# Altium schematic symbol library DASH1_Schlib1.SchLib: 33 symbols (part 2 of 2)
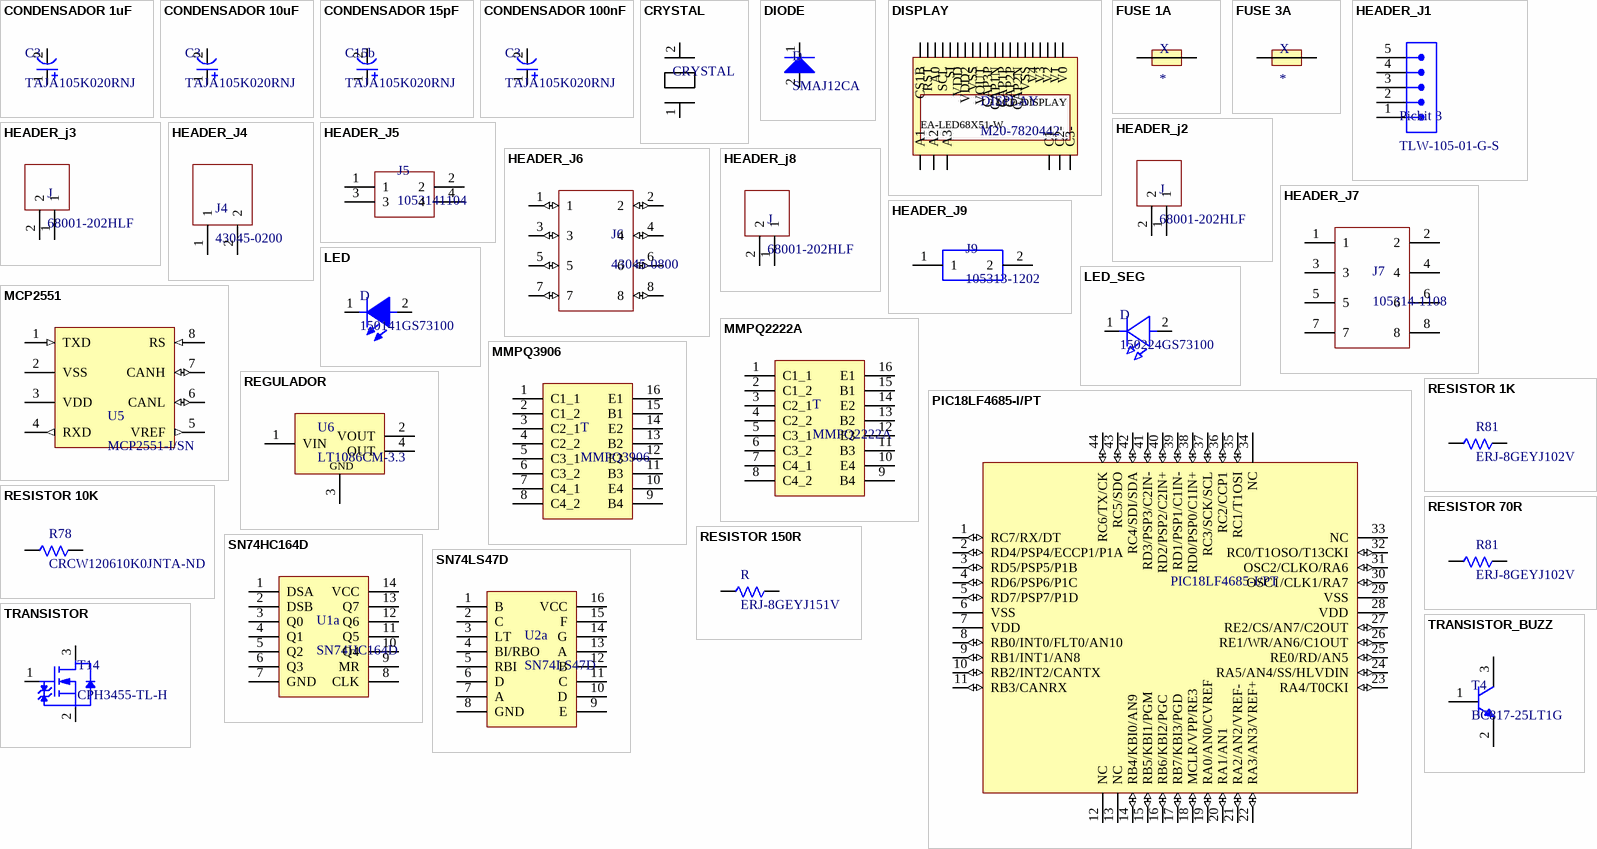
[diagram p1: symbols CONDENSADOR 1uF to TRANSISTOR_BUZZ]

## REGULADOR
designator U6, comment LT1086CM-3.3
IC REG LDO 3.3V 1.5A D2PAK; Manufacturer 1: Analog Devices / Linear Technology; Number of Outputs: 1; Max Input Voltage: 25V; Dropout Voltage: 1.3V; Min Input Voltage: 2.55V; Quiescent Current: 10mA; Operating Supply Current: 5mA; Power Supply Rejection Ratio (PSRR): 72dB; Polarity: Positive; Power Dissipation: 15W; Output Type: Fixed; Supplier 1: Arrow; Manufacturer Part Number 1: LT1086CM-3.3; Stock 1: 2286; Pricing 1: 1=11,36990, 25=7,21000, 100=5,40000, 500=4,32000, 1000=3,87000 (USD); RoHS: Yes; Case/Package: M; Number of Pins: 3; Min Operating Temperature: 0°C; Max Operating Temperature: 150°C; Packaging: Rail/Tube; Output Voltage: 3.3V; Output Current: 1.5A; Package Quantity: 50; Number of Regulators: 1; Min Current Limit: 1.5A; Max Output Current: 1.5A; Length: 10.54mm; Height: 4.57mm; Width: 9.4mm; Radiation Hardening: No; Lead Free: Contains Lead; ComponentLink1URL: https://datasheet.ciiva.com/2058/1722-2058517.pdf?src-supplier=Digi-Key; ComponentLink1Description: https://datasheet.ciiva.com/2058/1722-2058517.pdf?src-supplier=Digi-Key; Supplier Part Number 1: LT1086CM-3.3; Category: Regulador
footprint TO228P970-3N
pins: 1 VIN (power), 2 VOUT (power), 3 GND (power), 4 OUT (power)

## RESISTOR 1K
designator R81, comment ERJ-8GEYJ102V
Res Thick Film 1206(3216) 1K Ohm 5% 1/4W 200ppm/C Molded SMD Punched Carrier T/R; Manufacturer 1: Panasonic; Resistance: 1kR; Temperature Coefficient: 200ppm/°C; Power Rating: 250mW; Voltage Rating: 200V; Categoría: Resistencia; Supplier 1: Digi-Key; Manufacturer Part Number 1: ERJ-8GEYJ102V; Stock 1: 1414216; Pricing 1: 1=0,10000, 10=0,07400, 100=0,03010, 1000=0,01351, 2500=0,01172 (USD); RoHS: Yes; Mount: Surface Mount; Case/Package: 1206; Case Code (Metric): 3216; Case Code (Imperial): 1206; Contact Plating: Tin; Min Operating Temperature: -55°C; Max Operating Temperature: 155°C; Tolerance: 5%; Packaging: Tape and Reel; Composition: Thick Film; Package Quantity: 1; Number of Terminations: 2; Max Power Dissipation: 250mW; Voltage Rating (DC): 200V; Features: Automotive AEC-Q200; Termination: SMD/SMT; Military Standard: Not; Width: 0.063inch; Radiation Hardening: No; Lead Free: Lead Free; REACH SVHC: Unknown; ComponentLink1URL: https://datasheet.ciiva.com/24069/aoa0000ce1-37422-24069653.pdf?src-supplier=Mouser; ComponentLink1Description: https://datasheet.ciiva.com/24069/aoa0000ce1-37422-24069653.pdf?src-supplier=Mouser; ComponentLink2URL: https://datasheet.ciiva.com/30141/4aoa0000ce1-30141014.pdf?src-supplier=Onlinecomponents.com; ComponentLink2Description: https://datasheet.ciiva.com/30141/4aoa0000ce1-30141014.pdf?src-supplier=Onlinecomponents.com; ComponentLink3URL: https://datasheet.ciiva.com/43460/1500035-43460230.pdf?src-supplier=Farnell; ComponentLink3Description: https://datasheet.ciiva.com/43460/1500035-43460230.pdf?src-supplier=Farnell; ComponentLink4URL: https://datasheet.ciiva.com/17215/aoa0000ce1-17215321.pdf?src-supplier=Avnet+Europe; ComponentLink4Description: https://datasheet.ciiva.com/17215/aoa0000ce1-17215321.pdf?src-supplier=Avnet+Europe; ComponentLink5URL: https://datasheet.ciiva.com/46371/1500035-46371931.pdf?src-supplier=Element14; ComponentLink5Description: https://datasheet.ciiva.com/46371/1500035-46371931.pdf?src-supplier=Element14; ComponentLink6URL: https://datasheet.ciiva.com/28532/1678796-28532156.pdf?src-supplier=Element14; ComponentLink6Description: https://datasheet.ciiva.com/28532/1678796-28532156.pdf?src-supplier=Element14; ComponentLink7URL: https://datasheet.ciiva.com/46386/1500035-46386461.pdf?src-supplier=Element14; ComponentLink7Description: https://datasheet.ciiva.com/46386/1500035-46386461.pdf?src-supplier=Element14; ComponentLink8URL: https://datasheet.ciiva.com/48532/aoa0000ce1-48532159.pdf?src-supplier=Avnet; ComponentLink8Description: https://datasheet.ciiva.com/48532/aoa0000ce1-48532159.pdf?src-supplier=Avnet; Supplier Part Number 1: P1.0KECT-ND; Depth: 1.6mm; Height: 0.6mm; Length: 3.2mm
footprint ERJ-8GEYJ102V (Chip Resistor, 2-Leads, Body 3,20x1,60mm, IPC Medium Density)
pins: 1, 2

## RESISTOR 10K
designator R78, comment CRCW120610K0JNTA-ND
RES SMD 10K OHM 5% 1/4W 1206; Manufacturer 1: Vishay Dale; Resistance: 10kR; Power Rating: 250mW; Voltage Rating: 200V; Temperature Coefficient: 200ppm/°C; Supplier 1: Avnet; Manufacturer Part Number 1: CRCW120610K0JNTA; Stock 1: 5000; Pricing 1: 5000=0,02620, 10000=0,02542, 20000=0,02439, 30000=0,02372, 50000=0,02308 (USD); RoHS: Yes; Case/Package: 1206; Weight: 0.000353oz; Case Code (Metric): 3216; Case Code (Imperial): 1206; Contact Plating: Tin,Lead; Min Operating Temperature: -55°C; Max Operating Temperature: 155°C; Tolerance: 5%; Package Quantity: 5000; Packaging: Tape and Reel; Composition: Thick Film; Number of Terminations: 2; Termination: SMD/SMT; Military Standard: Not; Max Power Dissipation: 250mW; Voltage Rating (DC): 200V; Power Dissipation: 250mW; Features: Automotive AEC-Q200; Length: 3.2mm; Height: 0.024inch; Width: 0.063inch; Depth: 1.6mm; Radiation Hardening: No; Lead Free: Contains Lead; ComponentLink1URL: https://datasheet.ciiva.com/2567/dcrcw-2567803.pdf?src-supplier=Digi-Key; ComponentLink1Description: https://datasheet.ciiva.com/2567/dcrcw-2567803.pdf?src-supplier=Digi-Key; ComponentLink2URL: https://datasheet.ciiva.com/9052/dcrcw-9052558.pdf?src-supplier=Avnet; ComponentLink2Description: https://datasheet.ciiva.com/9052/dcrcw-9052558.pdf?src-supplier=Avnet; Supplier Part Number 1: CRCW120610K0JNTA
footprint ERJ-8GEYJ102V (Chip Resistor, 2-Leads, Body 3,20x1,60mm, IPC Medium Density)
pins: 1, 2

## RESISTOR 70R
designator R81, comment ERJ-8GEYJ102V
Res Thick Film 1206(3216) 70 Ohm 5% 1/4W 200ppm/C Molded SMD Punched Carrier T/R; Manufacturer 1: Panasonic; Resistance: 1kR; Temperature Coefficient: 200ppm/°C; Power Rating: 250mW; Voltage Rating: 200V; Categoría: Resistencia; Supplier 1: Digi-Key; Manufacturer Part Number 1: ERJ-8GEYJ102V; Stock 1: 1414216; Pricing 1: 1=0,10000, 10=0,07400, 100=0,03010, 1000=0,01351, 2500=0,01172 (USD); RoHS: Yes; Mount: Surface Mount; Case/Package: 1206; Case Code (Metric): 3216; Case Code (Imperial): 1206; Contact Plating: Tin; Min Operating Temperature: -55°C; Max Operating Temperature: 155°C; Tolerance: 5%; Packaging: Tape and Reel; Composition: Thick Film; Package Quantity: 1; Number of Terminations: 2; Max Power Dissipation: 250mW; Voltage Rating (DC): 200V; Features: Automotive AEC-Q200; Termination: SMD/SMT; Military Standard: Not; Width: 0.063inch; Radiation Hardening: No; Lead Free: Lead Free; REACH SVHC: Unknown; ComponentLink1URL: https://datasheet.ciiva.com/24069/aoa0000ce1-37422-24069653.pdf?src-supplier=Mouser; ComponentLink1Description: https://datasheet.ciiva.com/24069/aoa0000ce1-37422-24069653.pdf?src-supplier=Mouser; ComponentLink2URL: https://datasheet.ciiva.com/30141/4aoa0000ce1-30141014.pdf?src-supplier=Onlinecomponents.com; ComponentLink2Description: https://datasheet.ciiva.com/30141/4aoa0000ce1-30141014.pdf?src-supplier=Onlinecomponents.com; ComponentLink3URL: https://datasheet.ciiva.com/43460/1500035-43460230.pdf?src-supplier=Farnell; ComponentLink3Description: https://datasheet.ciiva.com/43460/1500035-43460230.pdf?src-supplier=Farnell; ComponentLink4URL: https://datasheet.ciiva.com/17215/aoa0000ce1-17215321.pdf?src-supplier=Avnet+Europe; ComponentLink4Description: https://datasheet.ciiva.com/17215/aoa0000ce1-17215321.pdf?src-supplier=Avnet+Europe; ComponentLink5URL: https://datasheet.ciiva.com/46371/1500035-46371931.pdf?src-supplier=Element14; ComponentLink5Description: https://datasheet.ciiva.com/46371/1500035-46371931.pdf?src-supplier=Element14; ComponentLink6URL: https://datasheet.ciiva.com/28532/1678796-28532156.pdf?src-supplier=Element14; ComponentLink6Description: https://datasheet.ciiva.com/28532/1678796-28532156.pdf?src-supplier=Element14; ComponentLink7URL: https://datasheet.ciiva.com/46386/1500035-46386461.pdf?src-supplier=Element14; ComponentLink7Description: https://datasheet.ciiva.com/46386/1500035-46386461.pdf?src-supplier=Element14; ComponentLink8URL: https://datasheet.ciiva.com/48532/aoa0000ce1-48532159.pdf?src-supplier=Avnet; ComponentLink8Description: https://datasheet.ciiva.com/48532/aoa0000ce1-48532159.pdf?src-supplier=Avnet; Supplier Part Number 1: P1.0KECT-ND; Depth: 1.6mm; Height: 0.6mm; Length: 3.2mm
footprint ERJ-8GEYJ102V (Chip Resistor, 2-Leads, Body 3,20x1,60mm, IPC Medium Density)
pins: 1, 2

## RESISTOR 150R
designator R, comment ERJ-8GEYJ151V
RES SMD 150 OHM 5% 1/4W 1206; Manufacturer 1: Panasonic; Resistance: 150R; Temperature Coefficient: 200ppm/°C; Voltage Rating: 200V; Power Rating: 250mW; Supplier 1: Digi-Key; Manufacturer Part Number 1: ERJ-8GEYJ151V; Stock 1: 112821; Pricing 1: 1=0,10000, 10=0,06500, 100=0,02660, 1000=0,01195, 2500=0,01037 (USD); RoHS: Yes; Mount: Surface Mount; Case/Package: 1206; Weight: 0.000571oz; Contact Plating: Tin; Case Code (Imperial): 1206; Case Code (Metric): 3216; Min Operating Temperature: -55°C; Max Operating Temperature: 155°C; Tolerance: 5%; Composition: Thick Film; Packaging: Tape and Reel; Package Quantity: 1; Termination: SMD/SMT; Number of Terminations: 2; Military Standard: Not; Max Power Dissipation: 250mW; Voltage Rating (DC): 200V; Features: Automotive AEC-Q200; Length: 3.2mm; Height: 0.6mm; Width: 1.6mm; Depth: 1.6mm; Radiation Hardening: No; REACH SVHC: No SVHC; Lead Free: Lead Free; ComponentLink1URL: https://datasheet.ciiva.com/34303/1990341-34303679.pdf?src-supplier=Jameco; ComponentLink1Description: https://datasheet.ciiva.com/34303/1990341-34303679.pdf?src-supplier=Jameco; ComponentLink2URL: https://datasheet.ciiva.com/30146/4aoa0000ce1-30146493.pdf?src-supplier=Onlinecomponents.com; ComponentLink2Description: https://datasheet.ciiva.com/30146/4aoa0000ce1-30146493.pdf?src-supplier=Onlinecomponents.com; ComponentLink3URL: https://datasheet.ciiva.com/16771/70255313-16771855.pdf?src-supplier=Allied+Electronics; ComponentLink3Description: https://datasheet.ciiva.com/16771/70255313-16771855.pdf?src-supplier=Allied+Electronics; ComponentLink4URL: https://datasheet.ciiva.com/16773/70255313-16773382.pdf?src-supplier=Allied+Electronics; ComponentLink4Description: https://datasheet.ciiva.com/16773/70255313-16773382.pdf?src-supplier=Allied+Electronics; ComponentLink5URL: https://datasheet.ciiva.com/6082/1500035-6082279.pdf?src-supplier=Farnell; ComponentLink5Description: https://datasheet.ciiva.com/6082/1500035-6082279.pdf?src-supplier=Farnell; ComponentLink6URL: https://datasheet.ciiva.com/17207/aoa0000ce1-17207400.pdf?src-supplier=Avnet+Europe; ComponentLink6Description: https://datasheet.ciiva.com/17207/aoa0000ce1-17207400.pdf?src-supplier=Avnet+Europe; ComponentLink7URL: https://datasheet.ciiva.com/46377/1500035-46377050.pdf?src-supplier=Element14; ComponentLink7Description: https://datasheet.ciiva.com/46377/1500035-46377050.pdf?src-supplier=Element14; ComponentLink8URL: https://datasheet.ciiva.com/9185/aoa0000ce1-9185516.pdf?src-supplier=Avnet; ComponentLink8Description: https://datasheet.ciiva.com/9185/aoa0000ce1-9185516.pdf?src-supplier=Avnet; ComponentLink9URL: https://datasheet.ciiva.com/16513/aoa0000ce1-16513711.pdf?src-supplier=Avnet+Asia; ComponentLink9Description: https://datasheet.ciiva.com/16513/aoa0000ce1-16513711.pdf?src-supplier=Avnet+Asia; Supplier Part Number 1: P150ECT-ND
footprint ERJ-8GEYJ102V (Chip Resistor, 2-Leads, Body 3,20x1,60mm, IPC Medium Density)
pins: 1, 2

## SN74HC164D
designator U1a
IC, SHIFT REGISTER, SMD, 74HC164; Manufacturer 1: Texas Instruments; Number of Elements: 1; Max Supply Voltage: 6V; Min Supply Voltage: 2V; Propagation Delay: 30ns; Number of Bits per Element: 8; Operating Supply Voltage: 5V; Direction: Unidirectional; Number of Input Lines: 2; Turn-On Delay Time: 255ns; Supplier 1: Digi-Key; Manufacturer Part Number 1: SN74HC164D; Stock 1: 1795; Pricing 1: 1=0,39000, 10=0,33800, 25=0,31520, 100=0,25200, 250=0,23400, 500=0,19800, 1000=0,15300, 2500=0,13950, 5000=0,13050 (USD); RoHS: Yes; Mount: Surface Mount; Case/Package: SOIC; Number of Pins: 14; Weight: 0.004318oz; Min Operating Temperature: -40°C; Max Operating Temperature: 125°C; Packaging: Rail/Tube; Logic Function: Shift Register; Package Quantity: 50; Number of Circuits: 1; Number of Output Lines: 8; Number of Bits: 8; Length: 8.65mm; Height: 1.58mm; Width: 3.91mm; Radiation Hardening: No; Lead Free: Lead Free; REACH SVHC: No SVHC; ComponentLink1URL: https://datasheet.ciiva.com/15093/getdatasheetpartid-81705-15093317.pdf?src-supplier=Verical; ComponentLink1Description: https://datasheet.ciiva.com/15093/getdatasheetpartid-81705-15093317.pdf?src-supplier=Verical; ComponentLink2URL: https://datasheet.ciiva.com/1632/sn74hc164-1632150.pdf?src-supplier=Newark; ComponentLink2Description: https://datasheet.ciiva.com/1632/sn74hc164-1632150.pdf?src-supplier=Newark; ComponentLink3URL: https://datasheet.ciiva.com/41456/001016674-da-01-en-ic-8bit-shft-reg-sn74hc164d-soic-14-tid-41456967.pdf?src-supplier=Conrad; ComponentLink3Description: https://datasheet.ciiva.com/41456/001016674-da-01-en-ic-8bit-shft-reg-sn74hc164d-soic-14-tid-41456967.pdf?src-supplier=Conrad; ComponentLink4URL: https://datasheet.ciiva.com/1509/1850934-1509462.pdf?src-supplier=Element14; ComponentLink4Description: https://datasheet.ciiva.com/1509/1850934-1509462.pdf?src-supplier=Element14; ComponentLink5URL: https://datasheet.ciiva.com/1509/1874575-1509559.pdf?src-supplier=Element14; ComponentLink5Description: https://datasheet.ciiva.com/1509/1874575-1509559.pdf?src-supplier=Element14; ComponentLink6URL: https://datasheet.ciiva.com/26210/sn54hc164-sp-26210135.pdf?src-supplier=Avnet+Europe; ComponentLink6Description: https://datasheet.ciiva.com/26210/sn54hc164-sp-26210135.pdf?src-supplier=Avnet+Europe; ComponentLink7URL: https://datasheet.ciiva.com/1886/sn74hc164-1886430.pdf?src-supplier=Digi-Key; ComponentLink7Description: https://datasheet.ciiva.com/1886/sn74hc164-1886430.pdf?src-supplier=Digi-Key; Supplier Part Number 1: 296-8247-5-ND
footprint SOP127P600-8N
pins: 1 DSA, 2 DSB, 3 Q0, 4 Q1, 5 Q2, 6 Q3, 7 GND, 8 CLK, 9 MR, 10 Q4, 11 Q5, 12 Q6, 13 Q7, 14 VCC (power)

## SN74LS47D
designator U2a
TEXAS INSTRUMENTS         SN74LS47D            LOGIC, BCD TO 7-SEG DECODER, 16SOIC; Min Supply Voltage: 4.75V; Max Supply Voltage: 5.25V; Logic Function: Demultiplexer,Decoder; Operating Supply Voltage: 5V; Number of Outputs: 7; Low Level Output Current: 3.2mA; Polarity: Inverting; High Level Output Current: -50uA; Bandwidth: 35MHz; Propagation Delay: 100ns; Number of Elements: 1; Number of Inputs: 4; Operating Supply Current: 7mA; Supplier 1: Digi-Key; Manufacturer 1: Texas Instruments; Manufacturer Part Number 1: SN74LS47D; Stock 1: 475; Pricing 1: 1=1,85000, 10=1,66200, 25=1,56760, 100=1,33550, 250=1,25400, 500=1,09726, 1000=0,90915, 2500=0,84645, 5000=0,81510 (USD); RoHS: Yes; Case/Package: D; Number of Pins: 16; Weight: 0.004998oz; Contact Plating: Gold; Min Operating Temperature: 0°C; Max Operating Temperature: 70°C; Packaging: Rail/Tube; Number of Bits: 7; Package Quantity: 40; Max Input Voltage: 5.25V; Min Input Voltage: 4.75V; Number of Input Lines: 4; Number of Output Lines: 7; Turn-On Delay Time: 100ns; Number of Channels: 1; Number of Circuits: 1; Quiescent Current: 7mA; Length: 10mm; Height: 1.5mm; Width: 4mm; Radiation Hardening: No; Lead Free: Lead Free; REACH SVHC: No SVHC; ComponentLink1URL: https://datasheet.ciiva.com/15092/getdatasheetpartid-251224-15092377.pdf?src-supplier=Verical; ComponentLink1Description: https://datasheet.ciiva.com/15092/getdatasheetpartid-251224-15092377.pdf?src-supplier=Verical; ComponentLink2URL: https://datasheet.ciiva.com/1507/1857076-1507297.pdf?src-supplier=Element14; ComponentLink2Description: https://datasheet.ciiva.com/1507/1857076-1507297.pdf?src-supplier=Element14; ComponentLink3URL: https://datasheet.ciiva.com/14294/sn74ls47-14294261.pdf?src-supplier=Avnet; ComponentLink3Description: https://datasheet.ciiva.com/14294/sn74ls47-14294261.pdf?src-supplier=Avnet; ComponentLink4URL: https://datasheet.ciiva.com/1940/sn7447a-1940924.pdf?src-supplier=Digi-Key; ComponentLink4Description: https://datasheet.ciiva.com/1940/sn7447a-1940924.pdf?src-supplier=Digi-Key; ComponentLink5URL: https://datasheet.ciiva.com/14134/sn7447a-eng-tds-14134267.pdf?src-supplier=Distrelec; ComponentLink5Description: https://datasheet.ciiva.com/14134/sn7447a-eng-tds-14134267.pdf?src-supplier=Distrelec; ComponentLink6URL: https://datasheet.ciiva.com/41462/001014503-da-01-en-ic-bcd-to-7-seg-de-sn74ls47d-soic-16-tid-41462358.pdf?src-supplier=Conrad; ComponentLink6Description: https://datasheet.ciiva.com/41462/001014503-da-01-en-ic-bcd-to-7-seg-de-sn74ls47d-soic-16-tid-41462358.pdf?src-supplier=Conrad; Supplier Part Number 1: 296-3711-5-ND
footprint SOP127P620X175-16N (SOP, 16-Leads, Body 10,00x4,00mm, Pitch 1,27mm, IPC Medium Density)
pins: 1 B, 2 C, 3 LT, 4 BI/RBO, 5 RBI, 6 D, 7 A, 8 GND, 9 E, 10 D, 11 C, 12 B, 13 A, 14 G, 15 F, 16 VCC (power)

## TRANSISTOR
designator T14, comment CPH3455-TL-H
MOSFET N-CH 35V 3A CPH3; Manufacturer 1: ON Semiconductor; Rds On Max: 104mR; Input Capacitance: 186pF; Rise Time: 4.7ns; Max Power Dissipation: 1W; Drain to Source Resistance: 108mR; Turn-On Delay Time: 4.2ns; Turn-Off Delay Time: 15ns; Fall Time: 5.7ns; Element Configuration: Single; Gate to Source Voltage (Vgs): 20V; Supplier 1: RSComponents; Manufacturer Part Number 1: CPH3455-TL-H; Stock 1: 2250; Pricing 1: 50=0,09600, 100=0,16000, 250=0,15300, 500=0,14600, 1000=0,11600 (EUR); RoHS: Yes; Case/Package: SC; Number of Pins: 3; Min Operating Temperature: -55°C; Max Operating Temperature: 150°C; Package Quantity: 3000; Packaging: Tape and Reel; Drain to Source Voltage (Vdss): 35V; Continuous Drain Current (ID): 3A; Drain to Source Breakdown Voltage: 35V; Power Dissipation: 1W; Length: 2.9mm; Height: 0.9mm; Width: 1.6mm; Lead Free: Lead Free; Halogen Free: Halogen Free; ComponentLink1URL: https://datasheet.ciiva.com/4444/cph3455-d-91653-4444616.pdf?src-supplier=Mouser; ComponentLink1Description: https://datasheet.ciiva.com/4444/cph3455-d-91653-4444616.pdf?src-supplier=Mouser; ComponentLink2URL: https://datasheet.ciiva.com/11164/cph3455-d-11164889.pdf?src-supplier=Avnet; ComponentLink2Description: https://datasheet.ciiva.com/11164/cph3455-d-11164889.pdf?src-supplier=Avnet; ComponentLink3URL: https://datasheet.ciiva.com/947/cph3455-d-947201.pdf?src-supplier=Digi-Key; ComponentLink3Description: https://datasheet.ciiva.com/947/cph3455-d-947201.pdf?src-supplier=Digi-Key; Supplier Part Number 1: 8009989; Category: Transistor
footprint SOT190P280X90-3N (SOT223, 3-Leads, Body 2,90x2,80mm (avg), Pitch 1,90mm, IPC Medium Density)
pins: 1 Gate, 2 Source, 3 Drain

## TRANSISTOR_BUZZ
designator T4, comment BC817-25LT1G
TRANS NPN 45V 0.5A SOT23; Manufacturer 1: ON Semiconductor; Max Power Dissipation: 300mW; Max Collector Current: 500mA; Collector Base Voltage (VCBO): 50V; hFE Min: 160; Transition Frequency: 100MHz; Emitter Base Voltage (VEBO): 5V; Element Configuration: Single; Number of Elements: 1; Collector Emitter Saturation Voltage: 700mV; Supplier 1: Digi-Key; Manufacturer Part Number 1: BC817-25LT1G; Stock 1: 103204; Pricing 1: 1=0,15000, 10=0,14100, 100=0,05890, 500=0,04626, 1000=0,03213 (USD); RoHS: Yes; Case/Package: SOT-23-3; Number of Pins: 3; Contact Plating: Tin,Matte; Min Operating Temperature: -55°C; Max Operating Temperature: 150°C; Collector Emitter Voltage (VCEO): 45V; Packaging: Tape and Reel; Polarity: NPN; Power Dissipation: 300mW; Package Quantity: 1; Collector Emitter Breakdown Voltage: 45V; Max Breakdown Voltage: 45V; Max Frequency: 100MHz; Current Rating: 500mA; Frequency: 100MHz; Gain Bandwidth Product: 100MHz; Length: 2.9mm; Height: 0.94mm; Width: 1.3mm; Radiation Hardening: No; Lead Free: Lead Free; Halogen Free: Halogen Free; REACH SVHC: No SVHC; ComponentLink1URL: https://datasheet.ciiva.com/15138/getdatasheetpartid-38405-15138602.pdf?src-supplier=Verical; ComponentLink1Description: https://datasheet.ciiva.com/15138/getdatasheetpartid-38405-15138602.pdf?src-supplier=Verical; ComponentLink2URL: https://datasheet.ciiva.com/27748/2010413-27748829.pdf?src-supplier=Jameco; ComponentLink2Description: https://datasheet.ciiva.com/27748/2010413-27748829.pdf?src-supplier=Jameco; ComponentLink3URL: https://datasheet.ciiva.com/1195/bc817-16lt1-d-1195763.pdf?src-supplier=Element14; ComponentLink3Description: https://datasheet.ciiva.com/1195/bc817-16lt1-d-1195763.pdf?src-supplier=Element14; ComponentLink4URL: https://datasheet.ciiva.com/976/bc817-16lt1-d-976356.pdf?src-supplier=Digi-Key; ComponentLink4Description: https://datasheet.ciiva.com/976/bc817-16lt1-d-976356.pdf?src-supplier=Digi-Key; ComponentLink5URL: https://datasheet.ciiva.com/1195/bc817-16lt1-d-1195764.pdf?src-supplier=Element14; ComponentLink5Description: https://datasheet.ciiva.com/1195/bc817-16lt1-d-1195764.pdf?src-supplier=Element14; ComponentLink6URL: https://datasheet.ciiva.com/976/bc817-16lt1-d-976357.pdf?src-supplier=Digi-Key; ComponentLink6Description: https://datasheet.ciiva.com/976/bc817-16lt1-d-976357.pdf?src-supplier=Digi-Key; ComponentLink7URL: https://datasheet.ciiva.com/4722/bc817-16lt1-d-104560-4722229.pdf?src-supplier=Mouser; ComponentLink7Description: https://datasheet.ciiva.com/4722/bc817-16lt1-d-104560-4722229.pdf?src-supplier=Mouser; ComponentLink8URL: https://datasheet.ciiva.com/22641/bc817-16lt1-d-22641013.pdf?src-supplier=Farnell; ComponentLink8Description: https://datasheet.ciiva.com/22641/bc817-16lt1-d-22641013.pdf?src-supplier=Farnell; ComponentLink9URL: https://datasheet.ciiva.com/22664/1842041-22664101.pdf?src-supplier=Element14; ComponentLink9Description: https://datasheet.ciiva.com/22664/1842041-22664101.pdf?src-supplier=Element14; ComponentLink10URL: https://datasheet.ciiva.com/976/bc817-16lt1-d-976358.pdf?src-supplier=Digi-Key; ComponentLink10Description: https://datasheet.ciiva.com/976/bc817-16lt1-d-976358.pdf?src-supplier=Digi-Key; ComponentLink11URL: https://datasheet.ciiva.com/25996/bc817-16lt1-d-25996327.pdf?src-supplier=Avnet+Europe; ComponentLink11Description: https://datasheet.ciiva.com/25996/bc817-16lt1-d-25996327.pdf?src-supplier=Avnet+Europe; ComponentLink12URL: https://datasheet.ciiva.com/11197/bc817-16lt1-d-11197514.pdf?src-supplier=Avnet; ComponentLink12Description: https://datasheet.ciiva.com/11197/bc817-16lt1-d-11197514.pdf?src-supplier=Avnet; ComponentLink13URL: https://datasheet.ciiva.com/22664/bc817-16lt1-d-22664204.pdf?src-supplier=Element14; ComponentLink13Description: https://datasheet.ciiva.com/22664/bc817-16lt1-d-22664204.pdf?src-supplier=Element14; ComponentLink14URL: https://datasheet.ciiva.com/1196/bc817-16lt1-d-1196558.pdf?src-supplier=Element14; ComponentLink14Description: https://datasheet.ciiva.com/1196/bc817-16lt1-d-1196558.pdf?src-supplier=Element14; Supplier Part Number 1: BC817-25LT1GOSCT-ND
footprint SOT190P240X100-3N (SOT223, 3-Leads, Body 2,90x2,40mm (avg), Pitch 1,90mm, IPC Medium Density)
pins: 1 Base, 2 Emitter, 3 Collector